# Altium schematic symbol library memory_sdram_lpddr4.SchLib: 4 symbols
Pins are listed as number, name and electrical type; pins without a type are passive.

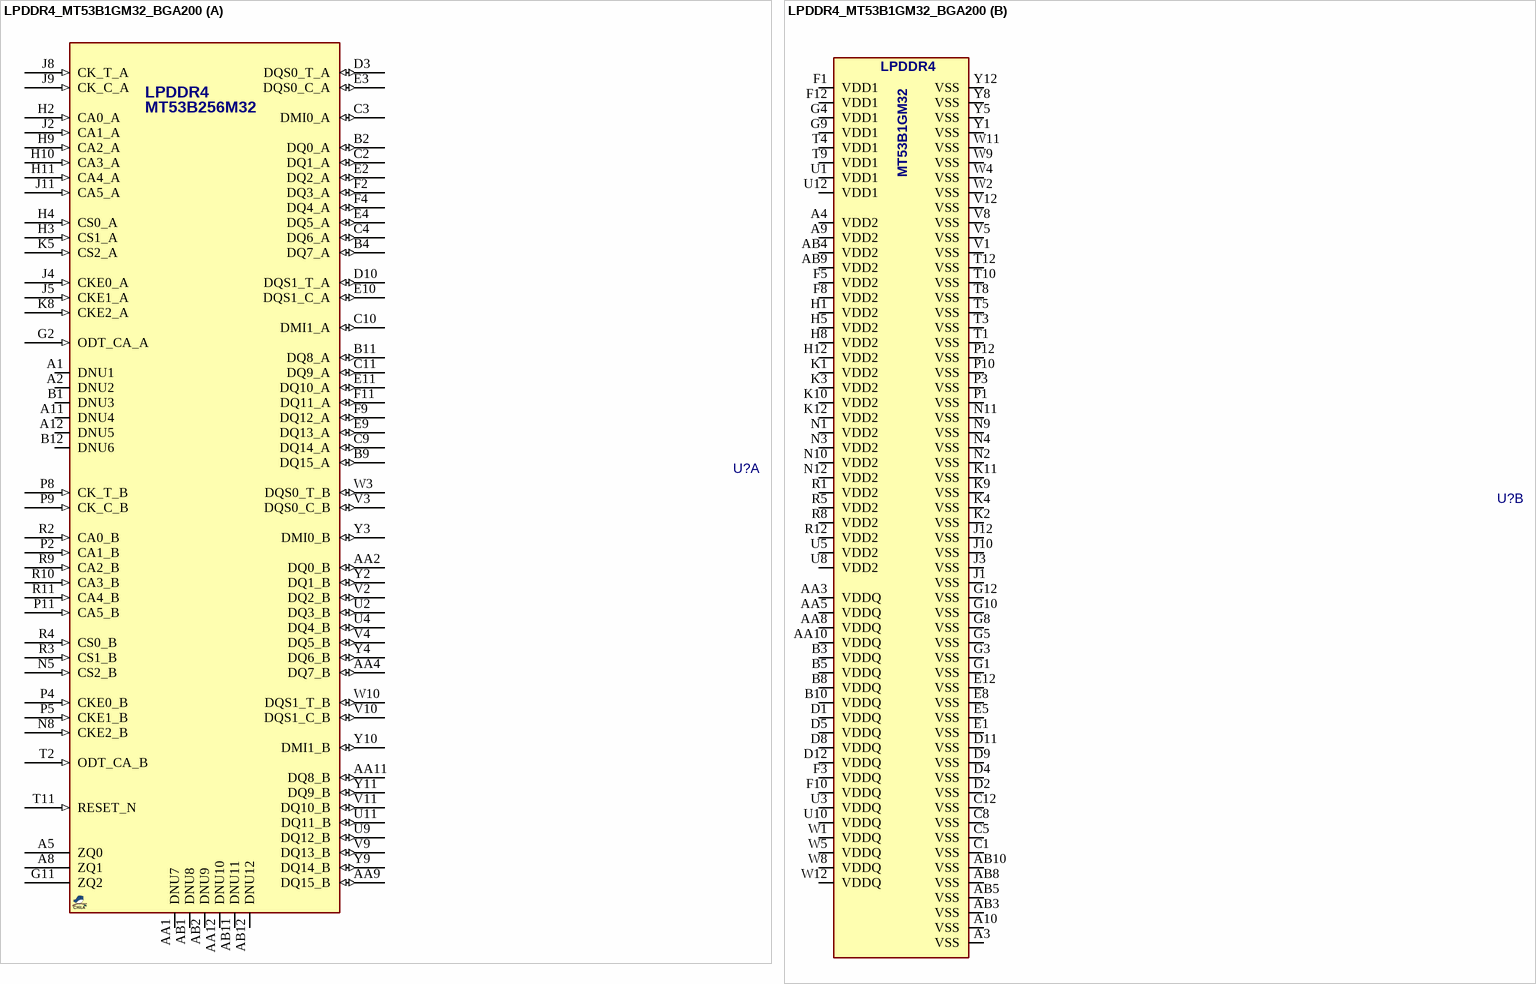
[diagram p0: symbol LPDDR4_MT53B1GM32_BGA200]

## LPDDR4_MT53B1GM32_BGA200
designator U?, comment LPDDR4_MT53B1GM32  (value not drawn)
LPDDR4 SDRAM, 32Gb (1024Mb X32), 200-WFBGA; MANF_P#: MT53B1GM32D4; MANF: Micron Technology; PARAM: 32Gb (1024Mb X32), 2133MHz; PARAM2: 1.8Vdd1, 1.1Vdd2, 1.1Vddq, -40~95oC; ASSEMBLY: ASSEMBLY; PRICE: -$; VALUE: LPDDR4_MT53B1GM32
footprint BGA65_200_11x14 (200-Ball FBGA, 0.65mm pitch, 11x14.5x1.0 mm)
part A pins: A1 DNU1, A2 DNU2, A5 ZQ0, A8 ZQ1, A11 DNU4, A12 DNU5, AA1 DNU7, AA2 DQ0_B (io), AA4 DQ7_B (io), AA9 DQ15_B (io), AA11 DQ8_B (io), AA12 DNU10, AB1 DNU8, AB2 DNU9, AB11 DNU11, AB12 DNU12, B1 DNU3, B2 DQ0_A (io), B4 DQ7_A (io), B9 DQ15_A (io), B11 DQ8_A (io), B12 DNU6, C2 DQ1_A (io), C3 DMI0_A (io), C4 DQ6_A (io), C9 DQ14_A (io), C10 DMI1_A (io), C11 DQ9_A (io), D3 DQS0_T_A (io), D10 DQS1_T_A (io), E2 DQ2_A (io), E3 DQS0_C_A (io), E4 DQ5_A (io), E9 DQ13_A (io), E10 DQS1_C_A (io), E11 DQ10_A (io), F2 DQ3_A (io), F4 DQ4_A (io), F9 DQ12_A (io), F11 DQ11_A (io), G2 ODT_CA_A (in), G11 ZQ2, H2 CA0_A (in), H3 CS1_A (in), H4 CS0_A (in), H9 CA2_A (in), H10 CA3_A (in), H11 CA4_A (in), J2 CA1_A (in), J4 CKE0_A (in), J5 CKE1_A (in), J8 CK_T_A (in), J9 CK_C_A (in), J11 CA5_A (in), K5 CS2_A (in), K8 CKE2_A (in), N5 CS2_B (in), N8 CKE2_B (in), P2 CA1_B (in), P4 CKE0_B (in), P5 CKE1_B (in), P8 CK_T_B (in), P9 CK_C_B (in), P11 CA5_B (in), R2 CA0_B (in), R3 CS1_B (in), R4 CS0_B (in), R9 CA2_B (in), R10 CA3_B (in), R11 CA4_B (in), T2 ODT_CA_B (in), T11 RESET_N (in), U2 DQ3_B (io), U4 DQ4_B (io), U9 DQ12_B (io), U11 DQ11_B (io), V2 DQ2_B (io), V3 DQS0_C_B (io), V4 DQ5_B (io), V9 DQ13_B (io), V10 DQS1_C_B (io), V11 DQ10_B (io), W3 DQS0_T_B (io), W10 DQS1_T_B (io), Y2 DQ1_B (io), Y3 DMI0_B (io), Y4 DQ6_B (io), Y9 DQ14_B (io), Y10 DMI1_B (io), Y11 DQ9_B (io)
part B pins: A3 VSS (power), A4 VDD2 (power), A9 VDD2 (power), A10 VSS (power), AA3 VDDQ (power), AA5 VDDQ (power), AA8 VDDQ (power), AA10 VDDQ (power), AB3 VSS (power), AB4 VDD2 (power), AB5 VSS (power), AB8 VSS (power), AB9 VDD2 (power), AB10 VSS (power), B3 VDDQ (power), B5 VDDQ (power), B8 VDDQ (power), B10 VDDQ (power), C1 VSS (power), C5 VSS (power), C8 VSS (power), C12 VSS (power), D1 VDDQ (power), D2 VSS (power), D4 VSS (power), D5 VDDQ (power), D8 VDDQ (power), D9 VSS (power), D11 VSS (power), D12 VDDQ (power), E1 VSS (power), E5 VSS (power), E8 VSS (power), E12 VSS (power), F1 VDD1 (power), F3 VDDQ (power), F5 VDD2 (power), F8 VDD2 (power), F10 VDDQ (power), F12 VDD1 (power), G1 VSS (power), G3 VSS (power), G4 VDD1 (power), G5 VSS (power), G8 VSS (power), G9 VDD1 (power), G10 VSS (power), G12 VSS (power), H1 VDD2 (power), H5 VDD2 (power), H8 VDD2 (power), H12 VDD2 (power), J1 VSS (power), J3 VSS (power), J10 VSS (power), J12 VSS (power), K1 VDD2 (power), K2 VSS (power), K3 VDD2 (power), K4 VSS (power), K9 VSS (power), K10 VDD2 (power), K11 VSS (power), K12 VDD2 (power), N1 VDD2 (power), N2 VSS (power), N3 VDD2 (power), N4 VSS (power), N9 VSS (power), N10 VDD2 (power), N11 VSS (power), N12 VDD2 (power), P1 VSS (power), P3 VSS (power), P10 VSS (power), P12 VSS (power), R1 VDD2 (power), R5 VDD2 (power), R8 VDD2 (power), R12 VDD2 (power), T1 VSS (power), T3 VSS (power), T4 VDD1 (power), T5 VSS (power), T8 VSS (power), T9 VDD1 (power), T10 VSS (power), T12 VSS (power), U1 VDD1 (power), U3 VDDQ (power), U5 VDD2 (power), U8 VDD2 (power), U10 VDDQ (power), U12 VDD1 (power), V1 VSS (power), V5 VSS (power), V8 VSS (power), V12 VSS (power), W1 VDDQ (power), W2 VSS (power), W4 VSS (power), W5 VDDQ (power), W8 VDDQ (power), W9 VSS (power), W11 VSS (power), W12 VDDQ (power), Y1 VSS (power), Y5 VSS (power), Y8 VSS (power), Y12 VSS (power)
part A text: LPDDR4; MT53B256M32
part B text: LPDDR4; MT53B1GM32

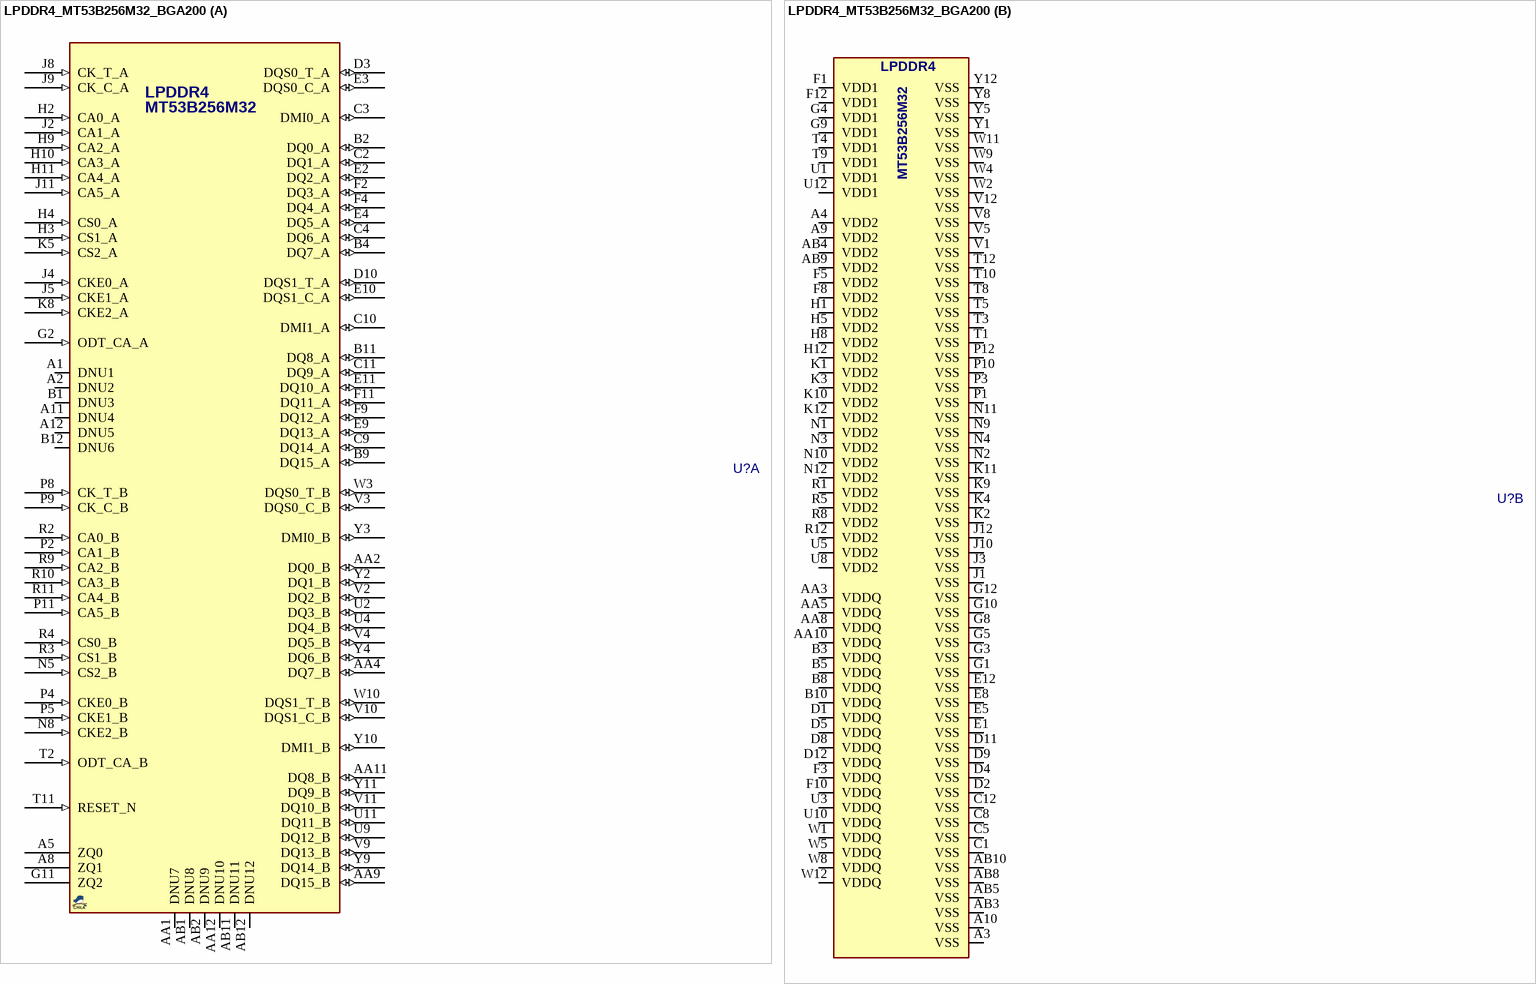
[diagram p1: symbol LPDDR4_MT53B256M32_BGA200]

## LPDDR4_MT53B256M32_BGA200
designator U?, comment LPDDR4_MT53B256M32  (value not drawn)
LPDDR4 SDRAM, 8Gb (256Mb X32), 200-WFBGA; MANF_P#: MT53B256M32D1GZ-062 AIT:B; MANF: Micron Technology; PARAM: 8Gb (256Mb X32), 2133MHz; PARAM2: 1.8Vdd1, 1.1Vdd2, 1.1Vddq, -40~95oC; ASSEMBLY: ASSEMBLY; PRICE: -$; VALUE: LPDDR4_MT53B256M32
footprint BGA65_200_11x14 (200-Ball FBGA, 0.65mm pitch, 11x14.5x1.0 mm)
part A pins: A1 DNU1, A2 DNU2, A5 ZQ0, A8 ZQ1, A11 DNU4, A12 DNU5, AA1 DNU7, AA2 DQ0_B (io), AA4 DQ7_B (io), AA9 DQ15_B (io), AA11 DQ8_B (io), AA12 DNU10, AB1 DNU8, AB2 DNU9, AB11 DNU11, AB12 DNU12, B1 DNU3, B2 DQ0_A (io), B4 DQ7_A (io), B9 DQ15_A (io), B11 DQ8_A (io), B12 DNU6, C2 DQ1_A (io), C3 DMI0_A (io), C4 DQ6_A (io), C9 DQ14_A (io), C10 DMI1_A (io), C11 DQ9_A (io), D3 DQS0_T_A (io), D10 DQS1_T_A (io), E2 DQ2_A (io), E3 DQS0_C_A (io), E4 DQ5_A (io), E9 DQ13_A (io), E10 DQS1_C_A (io), E11 DQ10_A (io), F2 DQ3_A (io), F4 DQ4_A (io), F9 DQ12_A (io), F11 DQ11_A (io), G2 ODT_CA_A (in), G11 ZQ2, H2 CA0_A (in), H3 CS1_A (in), H4 CS0_A (in), H9 CA2_A (in), H10 CA3_A (in), H11 CA4_A (in), J2 CA1_A (in), J4 CKE0_A (in), J5 CKE1_A (in), J8 CK_T_A (in), J9 CK_C_A (in), J11 CA5_A (in), K5 CS2_A (in), K8 CKE2_A (in), N5 CS2_B (in), N8 CKE2_B (in), P2 CA1_B (in), P4 CKE0_B (in), P5 CKE1_B (in), P8 CK_T_B (in), P9 CK_C_B (in), P11 CA5_B (in), R2 CA0_B (in), R3 CS1_B (in), R4 CS0_B (in), R9 CA2_B (in), R10 CA3_B (in), R11 CA4_B (in), T2 ODT_CA_B (in), T11 RESET_N (in), U2 DQ3_B (io), U4 DQ4_B (io), U9 DQ12_B (io), U11 DQ11_B (io), V2 DQ2_B (io), V3 DQS0_C_B (io), V4 DQ5_B (io), V9 DQ13_B (io), V10 DQS1_C_B (io), V11 DQ10_B (io), W3 DQS0_T_B (io), W10 DQS1_T_B (io), Y2 DQ1_B (io), Y3 DMI0_B (io), Y4 DQ6_B (io), Y9 DQ14_B (io), Y10 DMI1_B (io), Y11 DQ9_B (io)
part B pins: A3 VSS (power), A4 VDD2 (power), A9 VDD2 (power), A10 VSS (power), AA3 VDDQ (power), AA5 VDDQ (power), AA8 VDDQ (power), AA10 VDDQ (power), AB3 VSS (power), AB4 VDD2 (power), AB5 VSS (power), AB8 VSS (power), AB9 VDD2 (power), AB10 VSS (power), B3 VDDQ (power), B5 VDDQ (power), B8 VDDQ (power), B10 VDDQ (power), C1 VSS (power), C5 VSS (power), C8 VSS (power), C12 VSS (power), D1 VDDQ (power), D2 VSS (power), D4 VSS (power), D5 VDDQ (power), D8 VDDQ (power), D9 VSS (power), D11 VSS (power), D12 VDDQ (power), E1 VSS (power), E5 VSS (power), E8 VSS (power), E12 VSS (power), F1 VDD1 (power), F3 VDDQ (power), F5 VDD2 (power), F8 VDD2 (power), F10 VDDQ (power), F12 VDD1 (power), G1 VSS (power), G3 VSS (power), G4 VDD1 (power), G5 VSS (power), G8 VSS (power), G9 VDD1 (power), G10 VSS (power), G12 VSS (power), H1 VDD2 (power), H5 VDD2 (power), H8 VDD2 (power), H12 VDD2 (power), J1 VSS (power), J3 VSS (power), J10 VSS (power), J12 VSS (power), K1 VDD2 (power), K2 VSS (power), K3 VDD2 (power), K4 VSS (power), K9 VSS (power), K10 VDD2 (power), K11 VSS (power), K12 VDD2 (power), N1 VDD2 (power), N2 VSS (power), N3 VDD2 (power), N4 VSS (power), N9 VSS (power), N10 VDD2 (power), N11 VSS (power), N12 VDD2 (power), P1 VSS (power), P3 VSS (power), P10 VSS (power), P12 VSS (power), R1 VDD2 (power), R5 VDD2 (power), R8 VDD2 (power), R12 VDD2 (power), T1 VSS (power), T3 VSS (power), T4 VDD1 (power), T5 VSS (power), T8 VSS (power), T9 VDD1 (power), T10 VSS (power), T12 VSS (power), U1 VDD1 (power), U3 VDDQ (power), U5 VDD2 (power), U8 VDD2 (power), U10 VDDQ (power), U12 VDD1 (power), V1 VSS (power), V5 VSS (power), V8 VSS (power), V12 VSS (power), W1 VDDQ (power), W2 VSS (power), W4 VSS (power), W5 VDDQ (power), W8 VDDQ (power), W9 VSS (power), W11 VSS (power), W12 VDDQ (power), Y1 VSS (power), Y5 VSS (power), Y8 VSS (power), Y12 VSS (power)
part A text: LPDDR4; MT53B256M32
part B text: LPDDR4; MT53B256M32

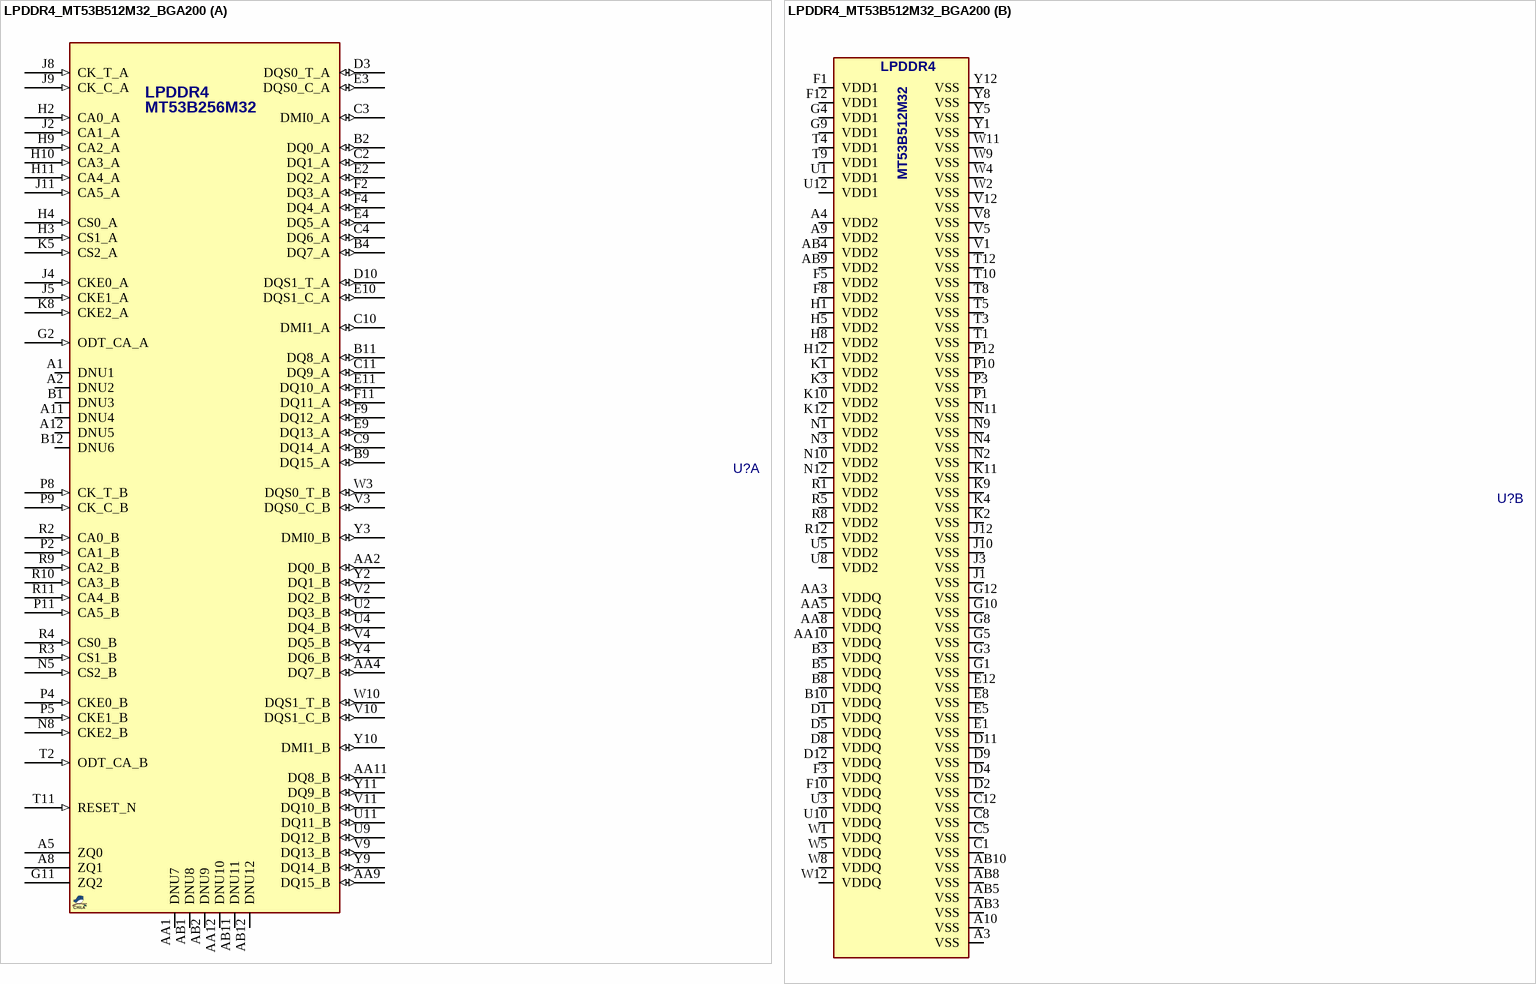
[diagram p2: symbol LPDDR4_MT53B512M32_BGA200]

## LPDDR4_MT53B512M32_BGA200
designator U?, comment LPDDR4_MT53B512M32  (value not drawn)
LPDDR4 SDRAM, 16Gb (512Mb X32), 200-WFBGA; MANF_P#: MT53B512M32D2; MANF: Micron Technology; PARAM: 16Gb (512Mb X32), 2133MHz; PARAM2: 1.8Vdd1, 1.1Vdd2, 1.1Vddq, -40~95oC; ASSEMBLY: ASSEMBLY; PRICE: -$; VALUE: LPDDR4_MT53B512M32
footprint BGA65_200_11x14 (200-Ball FBGA, 0.65mm pitch, 11x14.5x1.0 mm)
part A pins: A1 DNU1, A2 DNU2, A5 ZQ0, A8 ZQ1, A11 DNU4, A12 DNU5, AA1 DNU7, AA2 DQ0_B (io), AA4 DQ7_B (io), AA9 DQ15_B (io), AA11 DQ8_B (io), AA12 DNU10, AB1 DNU8, AB2 DNU9, AB11 DNU11, AB12 DNU12, B1 DNU3, B2 DQ0_A (io), B4 DQ7_A (io), B9 DQ15_A (io), B11 DQ8_A (io), B12 DNU6, C2 DQ1_A (io), C3 DMI0_A (io), C4 DQ6_A (io), C9 DQ14_A (io), C10 DMI1_A (io), C11 DQ9_A (io), D3 DQS0_T_A (io), D10 DQS1_T_A (io), E2 DQ2_A (io), E3 DQS0_C_A (io), E4 DQ5_A (io), E9 DQ13_A (io), E10 DQS1_C_A (io), E11 DQ10_A (io), F2 DQ3_A (io), F4 DQ4_A (io), F9 DQ12_A (io), F11 DQ11_A (io), G2 ODT_CA_A (in), G11 ZQ2, H2 CA0_A (in), H3 CS1_A (in), H4 CS0_A (in), H9 CA2_A (in), H10 CA3_A (in), H11 CA4_A (in), J2 CA1_A (in), J4 CKE0_A (in), J5 CKE1_A (in), J8 CK_T_A (in), J9 CK_C_A (in), J11 CA5_A (in), K5 CS2_A (in), K8 CKE2_A (in), N5 CS2_B (in), N8 CKE2_B (in), P2 CA1_B (in), P4 CKE0_B (in), P5 CKE1_B (in), P8 CK_T_B (in), P9 CK_C_B (in), P11 CA5_B (in), R2 CA0_B (in), R3 CS1_B (in), R4 CS0_B (in), R9 CA2_B (in), R10 CA3_B (in), R11 CA4_B (in), T2 ODT_CA_B (in), T11 RESET_N (in), U2 DQ3_B (io), U4 DQ4_B (io), U9 DQ12_B (io), U11 DQ11_B (io), V2 DQ2_B (io), V3 DQS0_C_B (io), V4 DQ5_B (io), V9 DQ13_B (io), V10 DQS1_C_B (io), V11 DQ10_B (io), W3 DQS0_T_B (io), W10 DQS1_T_B (io), Y2 DQ1_B (io), Y3 DMI0_B (io), Y4 DQ6_B (io), Y9 DQ14_B (io), Y10 DMI1_B (io), Y11 DQ9_B (io)
part B pins: A3 VSS (power), A4 VDD2 (power), A9 VDD2 (power), A10 VSS (power), AA3 VDDQ (power), AA5 VDDQ (power), AA8 VDDQ (power), AA10 VDDQ (power), AB3 VSS (power), AB4 VDD2 (power), AB5 VSS (power), AB8 VSS (power), AB9 VDD2 (power), AB10 VSS (power), B3 VDDQ (power), B5 VDDQ (power), B8 VDDQ (power), B10 VDDQ (power), C1 VSS (power), C5 VSS (power), C8 VSS (power), C12 VSS (power), D1 VDDQ (power), D2 VSS (power), D4 VSS (power), D5 VDDQ (power), D8 VDDQ (power), D9 VSS (power), D11 VSS (power), D12 VDDQ (power), E1 VSS (power), E5 VSS (power), E8 VSS (power), E12 VSS (power), F1 VDD1 (power), F3 VDDQ (power), F5 VDD2 (power), F8 VDD2 (power), F10 VDDQ (power), F12 VDD1 (power), G1 VSS (power), G3 VSS (power), G4 VDD1 (power), G5 VSS (power), G8 VSS (power), G9 VDD1 (power), G10 VSS (power), G12 VSS (power), H1 VDD2 (power), H5 VDD2 (power), H8 VDD2 (power), H12 VDD2 (power), J1 VSS (power), J3 VSS (power), J10 VSS (power), J12 VSS (power), K1 VDD2 (power), K2 VSS (power), K3 VDD2 (power), K4 VSS (power), K9 VSS (power), K10 VDD2 (power), K11 VSS (power), K12 VDD2 (power), N1 VDD2 (power), N2 VSS (power), N3 VDD2 (power), N4 VSS (power), N9 VSS (power), N10 VDD2 (power), N11 VSS (power), N12 VDD2 (power), P1 VSS (power), P3 VSS (power), P10 VSS (power), P12 VSS (power), R1 VDD2 (power), R5 VDD2 (power), R8 VDD2 (power), R12 VDD2 (power), T1 VSS (power), T3 VSS (power), T4 VDD1 (power), T5 VSS (power), T8 VSS (power), T9 VDD1 (power), T10 VSS (power), T12 VSS (power), U1 VDD1 (power), U3 VDDQ (power), U5 VDD2 (power), U8 VDD2 (power), U10 VDDQ (power), U12 VDD1 (power), V1 VSS (power), V5 VSS (power), V8 VSS (power), V12 VSS (power), W1 VDDQ (power), W2 VSS (power), W4 VSS (power), W5 VDDQ (power), W8 VDDQ (power), W9 VSS (power), W11 VSS (power), W12 VDDQ (power), Y1 VSS (power), Y5 VSS (power), Y8 VSS (power), Y12 VSS (power)
part A text: LPDDR4; MT53B256M32
part B text: LPDDR4; MT53B512M32

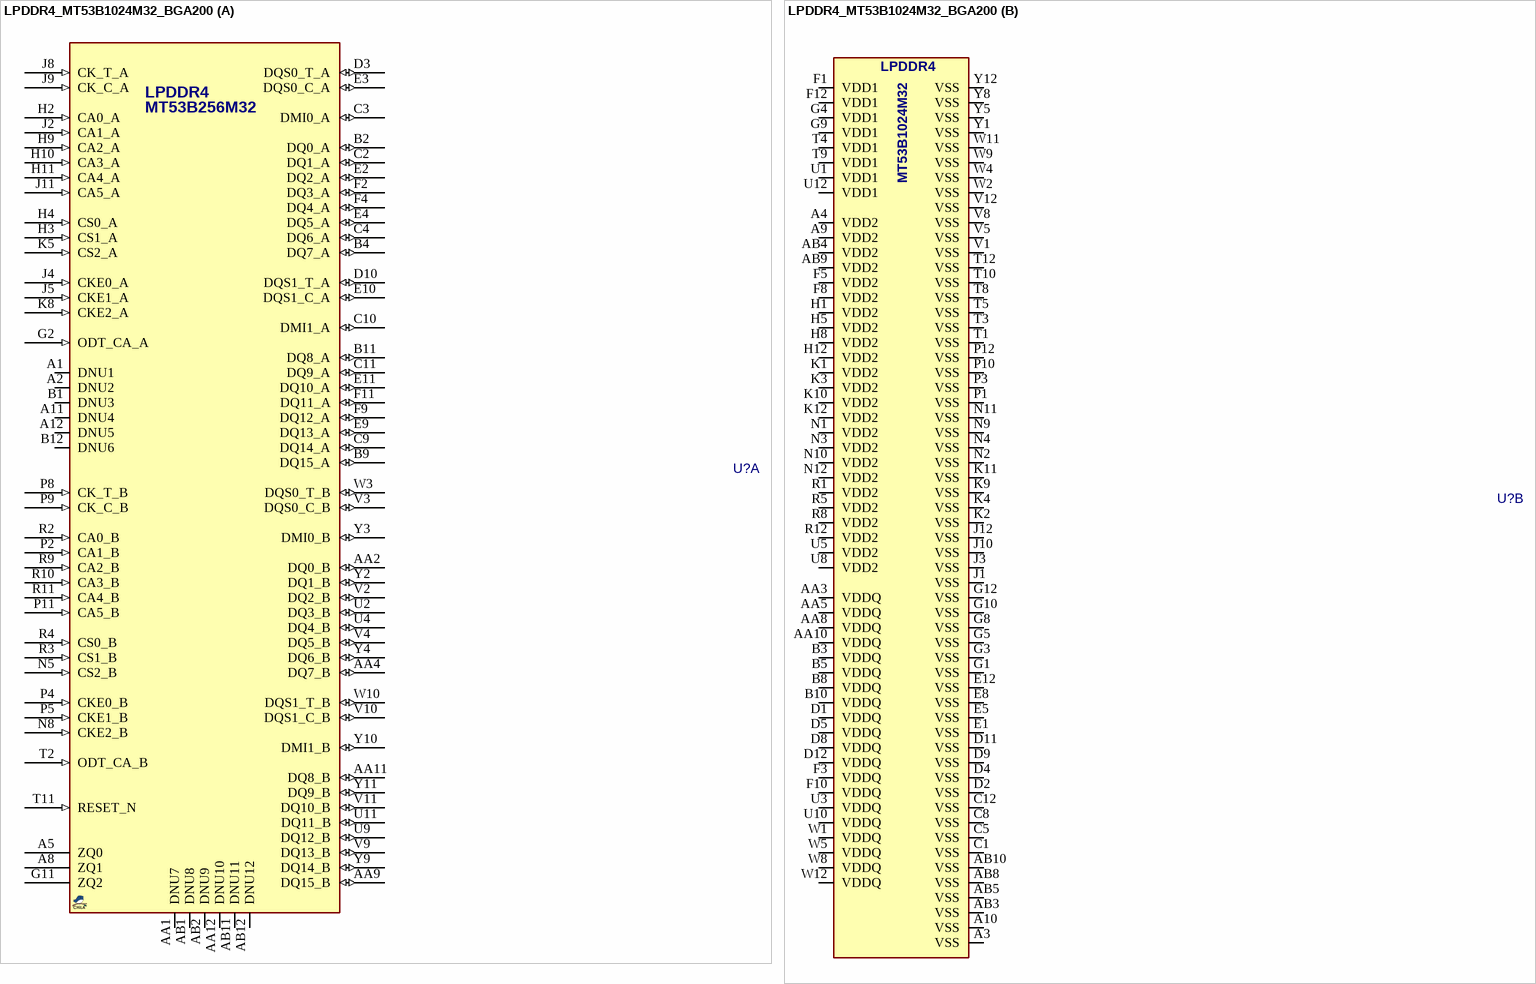
[diagram p3: symbol LPDDR4_MT53B1024M32_BGA200]

## LPDDR4_MT53B1024M32_BGA200
designator U?, comment LPDDR4_MT53B1024M32  (value not drawn)
LPDDR4 SDRAM, 32Gb (1024Mb X32), 200-WFBGA; MANF_P#: MT53B1024M32D4; MANF: Micron Technology; PARAM: 32Gb (1024Mb X32), 2133MHz; PARAM2: 1.8Vdd1, 1.1Vdd2, 1.1Vddq, -40~95oC; ASSEMBLY: ASSEMBLY; PRICE: -$; VALUE: LPDDR4_MT53B1024M32
footprint BGA65_200_11x14 (200-Ball FBGA, 0.65mm pitch, 11x14.5x1.0 mm)
part A pins: A1 DNU1, A2 DNU2, A5 ZQ0, A8 ZQ1, A11 DNU4, A12 DNU5, AA1 DNU7, AA2 DQ0_B (io), AA4 DQ7_B (io), AA9 DQ15_B (io), AA11 DQ8_B (io), AA12 DNU10, AB1 DNU8, AB2 DNU9, AB11 DNU11, AB12 DNU12, B1 DNU3, B2 DQ0_A (io), B4 DQ7_A (io), B9 DQ15_A (io), B11 DQ8_A (io), B12 DNU6, C2 DQ1_A (io), C3 DMI0_A (io), C4 DQ6_A (io), C9 DQ14_A (io), C10 DMI1_A (io), C11 DQ9_A (io), D3 DQS0_T_A (io), D10 DQS1_T_A (io), E2 DQ2_A (io), E3 DQS0_C_A (io), E4 DQ5_A (io), E9 DQ13_A (io), E10 DQS1_C_A (io), E11 DQ10_A (io), F2 DQ3_A (io), F4 DQ4_A (io), F9 DQ12_A (io), F11 DQ11_A (io), G2 ODT_CA_A (in), G11 ZQ2, H2 CA0_A (in), H3 CS1_A (in), H4 CS0_A (in), H9 CA2_A (in), H10 CA3_A (in), H11 CA4_A (in), J2 CA1_A (in), J4 CKE0_A (in), J5 CKE1_A (in), J8 CK_T_A (in), J9 CK_C_A (in), J11 CA5_A (in), K5 CS2_A (in), K8 CKE2_A (in), N5 CS2_B (in), N8 CKE2_B (in), P2 CA1_B (in), P4 CKE0_B (in), P5 CKE1_B (in), P8 CK_T_B (in), P9 CK_C_B (in), P11 CA5_B (in), R2 CA0_B (in), R3 CS1_B (in), R4 CS0_B (in), R9 CA2_B (in), R10 CA3_B (in), R11 CA4_B (in), T2 ODT_CA_B (in), T11 RESET_N (in), U2 DQ3_B (io), U4 DQ4_B (io), U9 DQ12_B (io), U11 DQ11_B (io), V2 DQ2_B (io), V3 DQS0_C_B (io), V4 DQ5_B (io), V9 DQ13_B (io), V10 DQS1_C_B (io), V11 DQ10_B (io), W3 DQS0_T_B (io), W10 DQS1_T_B (io), Y2 DQ1_B (io), Y3 DMI0_B (io), Y4 DQ6_B (io), Y9 DQ14_B (io), Y10 DMI1_B (io), Y11 DQ9_B (io)
part B pins: A3 VSS (power), A4 VDD2 (power), A9 VDD2 (power), A10 VSS (power), AA3 VDDQ (power), AA5 VDDQ (power), AA8 VDDQ (power), AA10 VDDQ (power), AB3 VSS (power), AB4 VDD2 (power), AB5 VSS (power), AB8 VSS (power), AB9 VDD2 (power), AB10 VSS (power), B3 VDDQ (power), B5 VDDQ (power), B8 VDDQ (power), B10 VDDQ (power), C1 VSS (power), C5 VSS (power), C8 VSS (power), C12 VSS (power), D1 VDDQ (power), D2 VSS (power), D4 VSS (power), D5 VDDQ (power), D8 VDDQ (power), D9 VSS (power), D11 VSS (power), D12 VDDQ (power), E1 VSS (power), E5 VSS (power), E8 VSS (power), E12 VSS (power), F1 VDD1 (power), F3 VDDQ (power), F5 VDD2 (power), F8 VDD2 (power), F10 VDDQ (power), F12 VDD1 (power), G1 VSS (power), G3 VSS (power), G4 VDD1 (power), G5 VSS (power), G8 VSS (power), G9 VDD1 (power), G10 VSS (power), G12 VSS (power), H1 VDD2 (power), H5 VDD2 (power), H8 VDD2 (power), H12 VDD2 (power), J1 VSS (power), J3 VSS (power), J10 VSS (power), J12 VSS (power), K1 VDD2 (power), K2 VSS (power), K3 VDD2 (power), K4 VSS (power), K9 VSS (power), K10 VDD2 (power), K11 VSS (power), K12 VDD2 (power), N1 VDD2 (power), N2 VSS (power), N3 VDD2 (power), N4 VSS (power), N9 VSS (power), N10 VDD2 (power), N11 VSS (power), N12 VDD2 (power), P1 VSS (power), P3 VSS (power), P10 VSS (power), P12 VSS (power), R1 VDD2 (power), R5 VDD2 (power), R8 VDD2 (power), R12 VDD2 (power), T1 VSS (power), T3 VSS (power), T4 VDD1 (power), T5 VSS (power), T8 VSS (power), T9 VDD1 (power), T10 VSS (power), T12 VSS (power), U1 VDD1 (power), U3 VDDQ (power), U5 VDD2 (power), U8 VDD2 (power), U10 VDDQ (power), U12 VDD1 (power), V1 VSS (power), V5 VSS (power), V8 VSS (power), V12 VSS (power), W1 VDDQ (power), W2 VSS (power), W4 VSS (power), W5 VDDQ (power), W8 VDDQ (power), W9 VSS (power), W11 VSS (power), W12 VDDQ (power), Y1 VSS (power), Y5 VSS (power), Y8 VSS (power), Y12 VSS (power)
part A text: LPDDR4; MT53B256M32
part B text: LPDDR4; MT53B1024M32